# Altium schematic symbol library QuanRF_Library.SchLib: 62 symbols
Pins are listed as number, name and electrical type; pins without a type are passive.

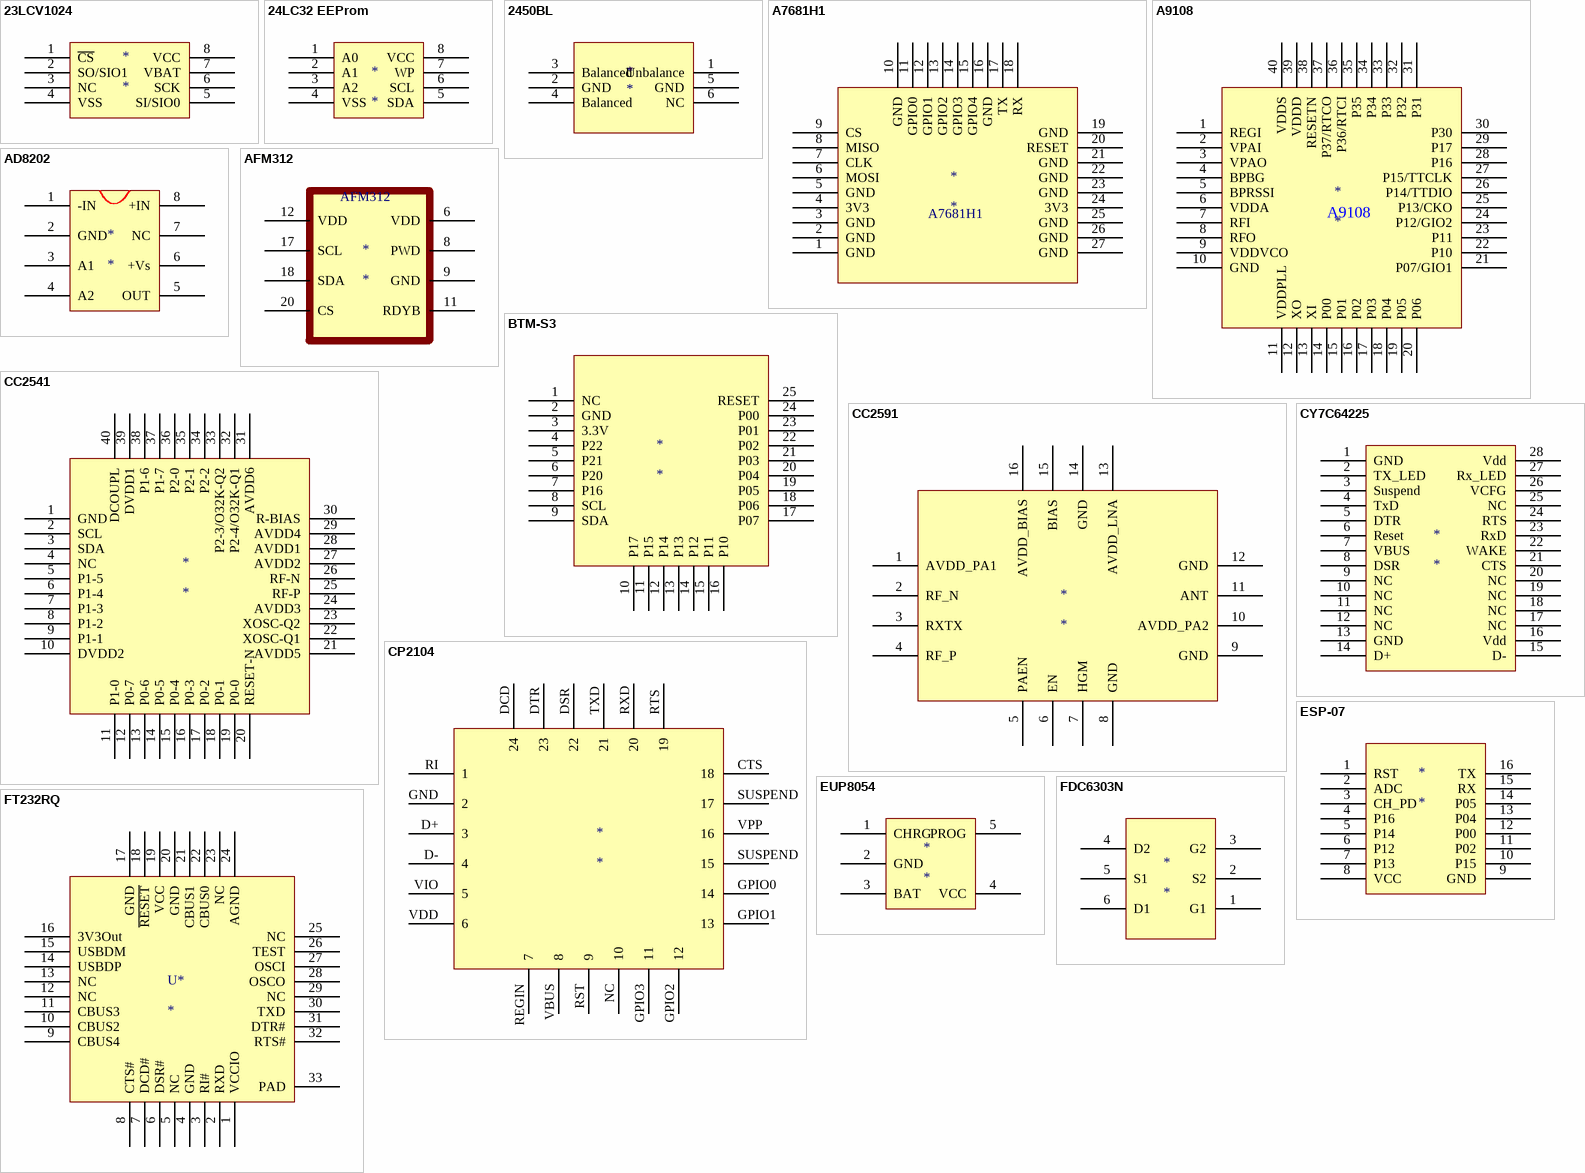
[diagram p0: symbols 23LCV1024 to FT232RQ]

## 23LCV1024
designator *
pins: 1 ~{CS}, 2 SO/SIO1, 3 NC, 4 VSS, 5 SI/SIO0, 6 SCK, 7 VBAT, 8 VCC

## 24LC32 EEProm
designator *
pins: 1 A0, 2 A1, 3 A2, 4 VSS, 5 SDA, 6 SCL, 7 WP, 8 VCC

## 2450BL
designator *
pins: 1 Unbalance, 2 GND, 3 Balanced, 4 Balanced, 5 GND, 6 NC

## A7681H1
designator *
pins: 1 GND, 2 GND, 3 GND, 4 3V3, 5 GND, 6 MOSI, 7 CLK, 8 MISO, 9 CS, 10 GND, 11 GPIO0, 12 GPIO1, 13 GPIO2, 14 GPIO3, 15 GPIO4, 16 GND, 17 TX, 18 RX, 19 GND, 20 RESET, 21 GND, 22 GND, 23 GND, 24 3V3, 25 GND, 26 GND, 27 GND

## A9108
designator *
pins: 1 REGI, 2 VPAI, 3 VPAO, 4 BPBG, 5 BPRSSI, 6 VDDA, 7 RFI, 8 RFO, 9 VDDVCO, 10 GND, 11 VDDPLL, 12 XO, 13 XI, 14 P00, 15 P01, 16 P02, 17 P03, 18 P04, 19 P05, 20 P06, 21 P07/GIO1, 22 P10, 23 P11, 24 P12/GIO2, 25 P13/CKO, 26 P14/TTDIO, 27 P15/TTCLK, 28 P16, 29 P17, 30 P30, 31 P31, 32 P32, 33 P33, 34 P34, 35 P35, 36 P36/RTCI, 37 P37/RTCO, 38 RESETN, 39 VDDD, 40 VDDS

## AD8202
designator *
pins: 1 -IN, 2 GND, 3 A1, 4 A2, 5 OUT, 6 +Vs, 7 NC, 8 +IN

## AFM312
designator *
pins: 6 VDD, 8 PWD, 9 GND, 11 RDYB, 12 VDD, 17 SCL, 18 SDA, 20 CS

## BTM-S3
designator *
pins: 1 NC, 2 GND, 3 3.3V, 4 P22, 5 P21, 6 P20, 7 P16, 8 SCL, 9 SDA, 10 P17, 11 P15, 12 P14, 13 P13, 14 P12, 15 P11, 16 P10, 17 P07, 18 P06, 19 P05, 20 P04, 21 P03, 22 P02, 23 P01, 24 P00, 25 RESET

## CC2541
designator *
footprint VQFN (Footprint not found)
pins: 1 GND, 2 SCL, 3 SDA, 4 NC, 5 P1-5, 6 P1-4, 7 P1-3, 8 P1-2, 9 P1-1, 10 DVDD2, 11 P1-0, 12 P0-7, 13 P0-6, 14 P0-5, 15 P0-4, 16 P0-3, 17 P0-2, 18 P0-1, 19 P0-0, 20 RESET-N, 21 AVDD5, 22 XOSC-Q1, 23 XOSC-Q2, 24 AVDD3, 25 RF-P, 26 RF-N, 27 AVDD2, 28 AVDD1, 29 AVDD4, 30 R-BIAS, 31 AVDD6, 32 P2-4/O32K-Q1, 33 P2-3/O32K-Q2, 34 P2-2, 35 P2-1, 36 P2-0, 37 P1-7, 38 P1-6, 39 DVDD1, 40 DCOUPL

## CC2591
designator *
pins: 1 AVDD_PA1, 2 RF_N, 3 RXTX, 4 RF_P, 5 PAEN, 6 EN, 7 HGM, 8 GND, 9 GND, 10 AVDD_PA2, 11 ANT, 12 GND, 13 AVDD_LNA, 14 GND, 15 BIAS, 16 AVDD_BIAS

## CP2104
designator *
pins: CTS 18, D+ 3, D- 4, DCD 24, DSR 22, DTR 23, GND 2, GPIO0 14, GPIO1 13, GPIO2 12, GPIO3 11, NC 10, REGIN 7, RI 1, RST 9, RTS 19, RXD 20, SUSPEND 15, SUSPEND 17, TXD 21, VBUS 8, VDD 6, VIO 5, VPP 16

## CY7C64225
designator *
pins: 1 GND, 2 TX_LED, 3 Suspend, 4 TxD, 5 DTR, 6 Reset, 7 VBUS, 8 DSR, 9 NC, 10 NC, 11 NC, 12 NC, 13 GND, 14 D+, 15 D-, 16 Vdd, 17 NC, 18 NC, 19 NC, 20 NC, 21 CTS, 22 WAKE, 23 RxD, 24 RTS, 25 NC, 26 VCFG, 27 Rx_LED, 28 Vdd

## ESP-07
designator *
pins: 1 RST, 2 ADC, 3 CH_PD, 4 P16, 5 P14, 6 P12, 7 P13, 8 VCC, 9 GND, 10 P15, 11 P02, 12 P00, 13 P04, 14 P05, 15 RX, 16 TX

## EUP8054
designator *
pins: 1 CHRG, 2 GND, 3 BAT, 4 VCC, 5 PROG

## FDC6303N
designator *
pins: 1 G1, 2 S2, 3 G2, 4 D2, 5 S1, 6 D1

## FT232RQ
designator U*
pins: 1 VCCIO, 2 RXD, 3 RI#, 4 GND, 5 NC, 6 DSR#, 7 DCD#, 8 CTS#, 9 CBUS4, 10 CBUS2, 11 CBUS3, 12 NC, 13 NC, 14 USBDP, 15 USBDM, 16 3V3Out, 17 GND, 18 ~{RESET}, 19 VCC, 20 GND, 21 CBUS1, 22 CBUS0, 23 NC, 24 AGND, 25 NC, 26 TEST, 27 OSCI, 28 OSCO, 29 NC, 30 TXD, 31 DTR#, 32 RTS#, 33 PAD

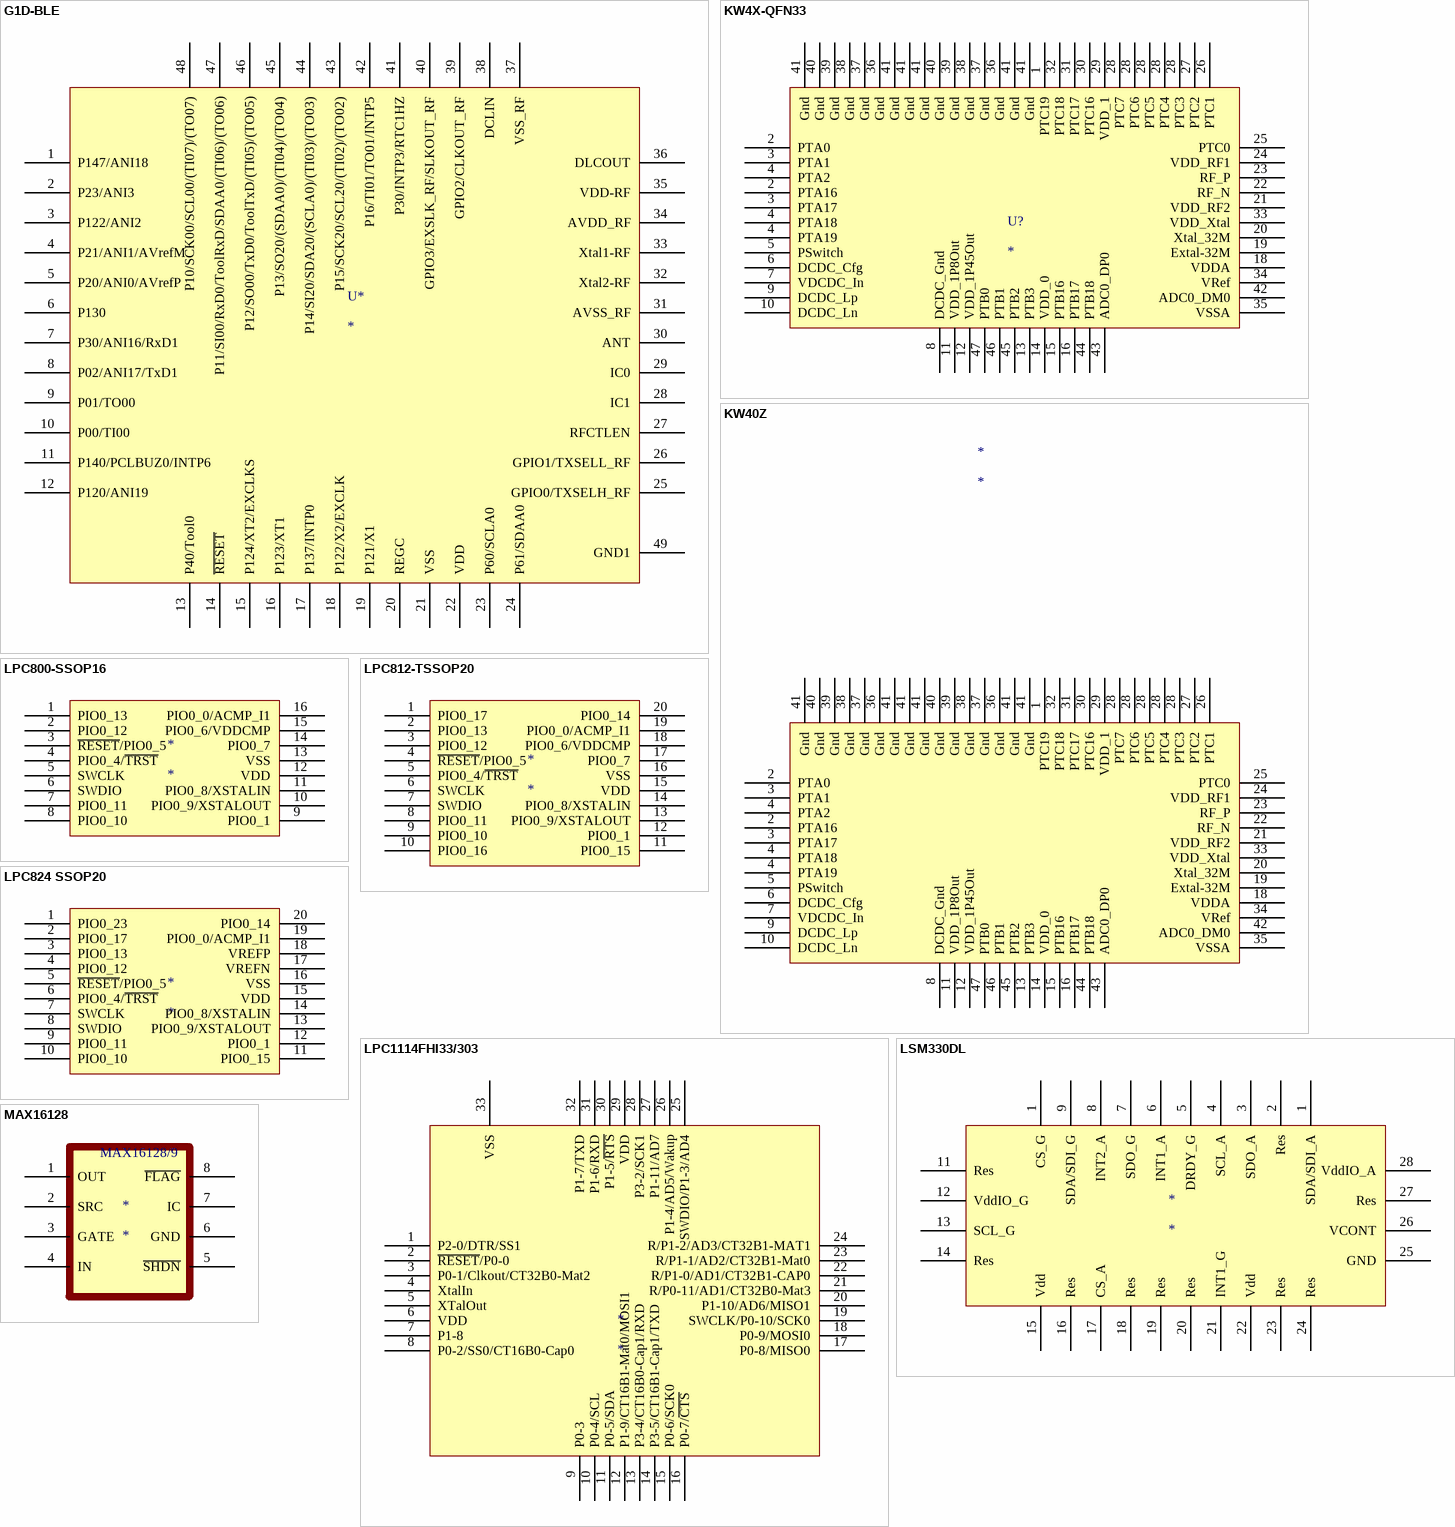
[diagram p1: symbols G1D-BLE to MAX16128]

## G1D-BLE
designator U*
pins: 1 P147/ANI18, 2 P23/ANI3, 3 P122/ANI2, 4 P21/ANI1/AVrefM, 5 P20/ANI0/AVrefP, 6 P130, 7 P30/ANI16/RxD1, 8 P02/ANI17/TxD1, 9 P01/TO00, 10 P00/TI00, 11 P140/PCLBUZ0/INTP6, 12 P120/ANI19, 13 P40/Tool0, 14 ~{RESET}, 15 P124/XT2/EXCLKS, 16 P123/XT1, 17 P137/INTP0, 18 P122/X2/EXCLK, 19 P121/X1, 20 REGC, 21 VSS, 22 VDD, 23 P60/SCLA0, 24 P61/SDAA0, 25 GPIO0/TXSELH_RF, 26 GPIO1/TXSELL_RF, 27 RFCTLEN, 28 IC1, 29 IC0, 30 ANT, 31 AVSS_RF, 32 Xtal2-RF, 33 Xtal1-RF, 34 AVDD_RF, 35 VDD-RF, 36 DLCOUT, 37 VSS_RF, 38 DCLIN, 39 GPIO2/CLKOUT_RF, 40 GPIO3/EXSLK_RF/SLKOUT_RF, 41 P30/INTP3/RTC1HZ, 42 P16/TI01/TO01/INTP5, 43 P15/SCK20/SCL20/(TI02)/(TO02), 44 P14/SI20/SDA20/(SCLA0)/(TI03)/(TO03), 45 P13/SO20/(SDAA0)/(TI04)/(TO04), 46 P12/SO00/TxD0/ToolTxD/(TI05)/(TO05), 47 P11/SI00/RxD0/ToolRxD/SDAA0/(TI06)/(TO06), 48 P10/SCK00/SCL00/(TI07)/(TO07), 49 GND1

## KW4X-QFN33
designator U?
pins: 1 PTC19, 2 PTA0, 2 PTA16, 3 PTA1, 3 PTA17, 4 PTA2, 4 PTA18, 4 PTA19, 5 PSwitch, 6 DCDC_Cfg, 7 VDCDC_In, 8 DCDC_Gnd (power), 9 DCDC_Lp, 10 DCDC_Ln, 11 VDD_1P8Out (power), 12 VDD_1P45Out (power), 13 PTB3, 14 VDD_0 (power), 15 PTB16, 16 PTB17, 18 VDDA (power), 19 Extal-32M, 20 Xtal_32M, 21 VDD_RF2, 22 RF_N, 23 RF_P, 24 VDD_RF1, 25 PTC0, 26 PTC1, 27 PTC2, 28 PTC3, 28 PTC7, 28 PTC6, 28 PTC5, 28 PTC4, 29 VDD_1, 30 PTC16, 31 PTC17, 32 PTC18, 33 VDD_Xtal (power), 34 VRef (power), 35 VSSA (power), 36 Gnd (power), 36 Gnd (power), 37 Gnd (power), 37 Gnd (power), 38 Gnd (power), 38 Gnd (power), 39 Gnd (power), 39 Gnd (power), 40 Gnd (power), 40 Gnd (power), 41 Gnd (power), 41 Gnd (power), 41 Gnd (power), 41 Gnd (power), 41 Gnd (power), 41 Gnd (power), 42 ADC0_DM0, 43 ADC0_DP0, 44 PTB18, 45 PTB2, 46 PTB1, 47 PTB0

## KW40Z
designator *
pins: 1 PTC19, 2 PTA0, 2 PTA16, 3 PTA1, 3 PTA17, 4 PTA2, 4 PTA18, 4 PTA19, 5 PSwitch, 6 DCDC_Cfg, 7 VDCDC_In, 8 DCDC_Gnd (power), 9 DCDC_Lp, 10 DCDC_Ln, 11 VDD_1P8Out (power), 12 VDD_1P45Out (power), 13 PTB3, 14 VDD_0 (power), 15 PTB16, 16 PTB17, 18 VDDA (power), 19 Extal-32M, 20 Xtal_32M, 21 VDD_RF2, 22 RF_N, 23 RF_P, 24 VDD_RF1, 25 PTC0, 26 PTC1, 27 PTC2, 28 PTC3, 28 PTC7, 28 PTC6, 28 PTC5, 28 PTC4, 29 VDD_1, 30 PTC16, 31 PTC17, 32 PTC18, 33 VDD_Xtal (power), 34 VRef (power), 35 VSSA (power), 36 Gnd (power), 36 Gnd (power), 37 Gnd (power), 37 Gnd (power), 38 Gnd (power), 38 Gnd (power), 39 Gnd (power), 39 Gnd (power), 40 Gnd (power), 40 Gnd (power), 41 Gnd (power), 41 Gnd (power), 41 Gnd (power), 41 Gnd (power), 41 Gnd (power), 41 Gnd (power), 42 ADC0_DM0, 43 ADC0_DP0, 44 PTB18, 45 PTB2, 46 PTB1, 47 PTB0

## LPC800-SSOP16
designator *
pins: 1 PIO0_13, 2 PIO0_12, 3 ~{RESET}/PIO0_5, 4 PIO0_4/~{TRST}, 5 SWCLK, 6 SWDIO, 7 PIO0_11, 8 PIO0_10, 9 PIO0_1, 10 PIO0_9/XSTALOUT, 11 PIO0_8/XSTALIN, 12 VDD, 13 VSS, 14 PIO0_7, 15 PIO0_6/VDDCMP, 16 PIO0_0/ACMP_I1

## LPC812-TSSOP20
designator *
pins: 1 PIO0_17, 2 PIO0_13, 3 PIO0_12, 4 ~{RESET}/PIO0_5, 5 PIO0_4/~{TRST}, 6 SWCLK, 7 SWDIO, 8 PIO0_11, 9 PIO0_10, 10 PIO0_16, 11 PIO0_15, 12 PIO0_1, 13 PIO0_9/XSTALOUT, 14 PIO0_8/XSTALIN, 15 VDD, 16 VSS, 17 PIO0_7, 18 PIO0_6/VDDCMP, 19 PIO0_0/ACMP_I1, 20 PIO0_14

## LPC824 SSOP20
designator *
pins: 1 PIO0_23, 2 PIO0_17, 3 PIO0_13, 4 PIO0_12, 5 ~{RESET}/PIO0_5, 6 PIO0_4/~{TRST}, 7 SWCLK, 8 SWDIO, 9 PIO0_11, 10 PIO0_10, 11 PIO0_15, 12 PIO0_1, 13 PIO0_9/XSTALOUT, 14 PIO0_8/XSTALIN, 15 VDD, 16 VSS, 17 VREFN, 18 VREFP, 19 PIO0_0/ACMP_I1, 20 PIO0_14

## LPC1114FHI33/303
designator *
pins: 1 P2-0/DTR/SS1, 2 ~{RESET}/P0-0, 3 P0-1/Clkout/CT32B0-Mat2, 4 XtalIn, 5 XTalOut, 6 VDD, 7 P1-8, 8 P0-2/SS0/CT16B0-Cap0, 9 P0-3, 10 P0-4/SCL, 11 P0-5/SDA, 12 P1-9/CT16B1-Mat0/MOSI1, 13 P3-4/CT16B0-Cap1/RXD, 14 P3-5/CT16B1-Cap1/TXD, 15 P0-6/SCK0, 16 P0-7/~{CTS}, 17 P0-8/MISO0, 18 P0-9/MOSI0, 19 SWCLK/P0-10/SCK0, 20 P1-10/AD6/MISO1, 21 R/P0-11/AD1/CT32B0-Mat3, 22 R/P1-0/AD1/CT32B1-CAP0, 23 R/P1-1/AD2/CT32B1-Mat0, 24 R/P1-2/AD3/CT32B1-MAT1, 25 SWDIO/P1-3/AD4, 26 P1-4/AD5/Wakup, 27 P1-11/AD7, 28 P3-2/SCK1, 29 VDD, 30 P1-5/~{RTS}, 31 P1-6/RXD, 32 P1-7/TXD, 33 VSS

## LSM330DL
designator *
pins: 1 SDA/SDI_A, 1 CS_G, 2 Res, 3 SDO_A, 4 SCL_A, 5 DRDY_G, 6 INT1_A, 7 SDO_G, 8 INT2_A, 9 SDA/SDI_G, 11 Res, 12 VddIO_G, 13 SCL_G, 14 Res, 15 Vdd, 16 Res, 17 CS_A, 18 Res, 19 Res, 20 Res, 21 INT1_G, 22 Vdd, 23 Res, 24 Res, 25 GND, 26 VCONT, 27 Res, 28 VddIO_A

## MAX16128
designator *
pins: 1 OUT, 2 SRC, 3 GATE, 4 IN, 5 ~{SHDN}, 6 GND, 7 IC, 8 ~{FLAG}
text: MAX16128/9

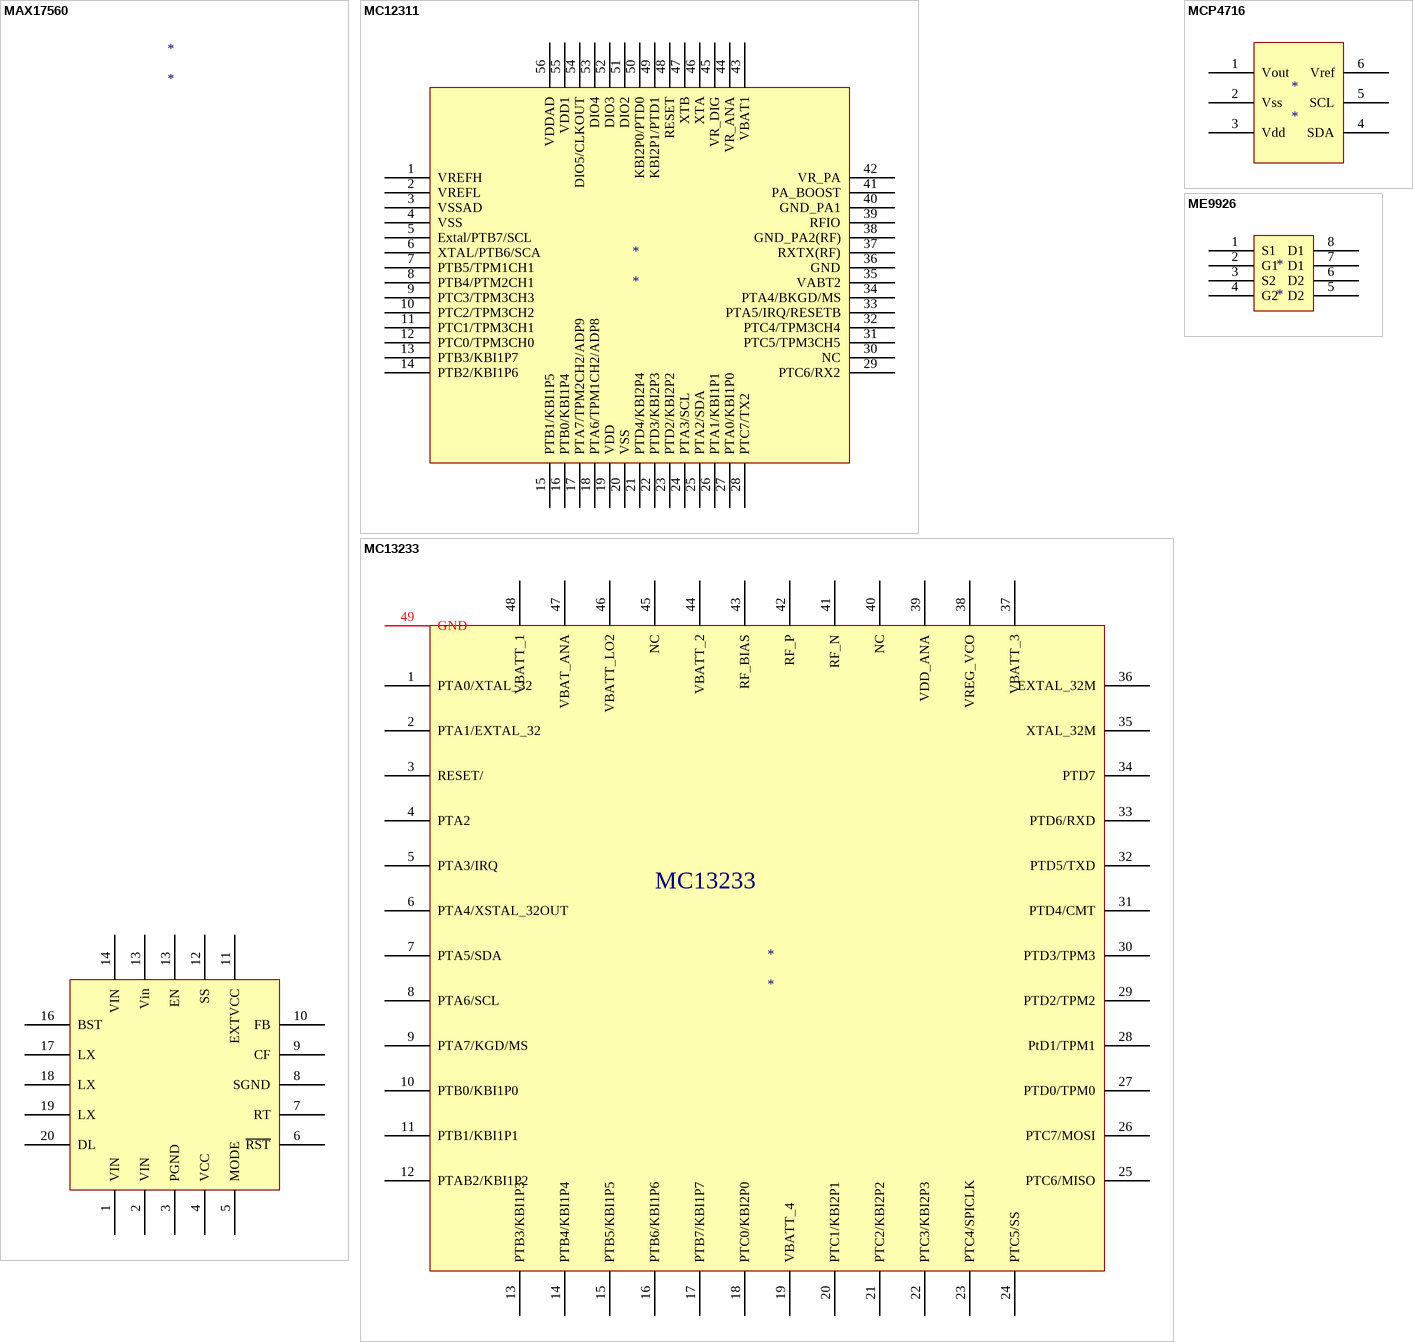
[diagram p2: symbols MAX17560 to ME9926]

## MAX17560
designator *
pins: 1 VIN, 2 VIN, 3 PGND, 4 VCC, 5 MODE, 6 ~{RST}, 7 RT, 8 SGND, 9 CF, 10 FB, 11 EXTVCC, 12 SS, 13 EN, 13 Vin, 14 VIN, 16 BST, 17 LX, 18 LX, 19 LX, 20 DL

## MC12311
designator *
pins: 1 VREFH, 2 VREFL, 3 VSSAD, 4 VSS, 5 Extal/PTB7/SCL, 6 XTAL/PTB6/SCA, 7 PTB5/TPM1CH1, 8 PTB4/PTM2CH1, 9 PTC3/TPM3CH3, 10 PTC2/TPM3CH2, 11 PTC1/TPM3CH1, 12 PTC0/TPM3CH0, 13 PTB3/KBI1P7, 14 PTB2/KBI1P6, 15 PTB1/KBI1P5, 16 PTB0/KBI1P4, 17 PTA7/TPM2CH2/ADP9, 18 PTA6/TPM1CH2/ADP8, 19 VDD, 20 VSS, 21 PTD4/KBI2P4, 22 PTD3/KBI2P3, 23 PTD2/KBI2P2, 24 PTA3/SCL, 25 PTA2/SDA, 26 PTA1/KBI1P1, 27 PTA0/KBI1P0, 28 PTC7/TX2, 29 PTC6/RX2, 30 NC, 31 PTC5/TPM3CH5, 32 PTC4/TPM3CH4, 33 PTA5/IRQ/RESETB, 34 PTA4/BKGD/MS, 35 VABT2 (power), 36 GND, 37 RXTX(RF), 38 GND_PA2(RF), 39 RFIO, 40 GND_PA1, 41 PA_BOOST, 42 VR_PA, 43 VBAT1, 44 VR_ANA, 45 VR_DIG, 46 XTA, 47 XTB, 48 RESET, 49 KBI2P1/PTD1, 50 KBI2P0/PTD0, 51 DIO2, 52 DIO3, 53 DIO4, 54 DIO5/CLKOUT, 55 VDD1, 56 VDDAD

## MC13233
designator *
pins: 1 PTA0/XTAL_32, 2 PTA1/EXTAL_32, 3 RESET/, 4 PTA2, 5 PTA3/IRQ, 6 PTA4/XSTAL_32OUT, 7 PTA5/SDA, 8 PTA6/SCL, 9 PTA7/KGD/MS, 10 PTB0/KBI1P0, 11 PTB1/KBI1P1, 12 PTAB2/KBI1P2, 13 PTB3/KBI1P3, 14 PTB4/KBI1P4, 15 PTB5/KBI1P5, 16 PTB6/KBI1P6, 17 PTB7/KBI1P7, 18 PTC0/KBI2P0, 19 VBATT_4, 20 PTC1/KBI2P1, 21 PTC2/KBI2P2, 22 PTC3/KBI2P3, 23 PTC4/SPICLK, 24 PTC5/SS, 25 PTC6/MISO, 26 PTC7/MOSI, 27 PTD0/TPM0, 28 PtD1/TPM1, 29 PTD2/TPM2, 30 PTD3/TPM3, 31 PTD4/CMT, 32 PTD5/TXD, 33 PTD6/RXD, 34 PTD7, 35 XTAL_32M, 36 EXTAL_32M, 37 VBATT_3, 38 VREG_VCO, 39 VDD_ANA, 40 NC, 41 RF_N, 42 RF_P, 43 RF_BIAS, 44 VBATT_2, 45 NC, 46 VBATT_LO2, 47 VBAT_ANA, 48 VBATT_1, 49 GND

## MCP4716
designator *
pins: 1 Vout, 2 Vss, 3 Vdd, 4 SDA, 5 SCL, 6 Vref

## ME9926
designator *
pins: 1 S1, 2 G1, 3 S2, 4 G2, 5 D2, 6 D2, 7 D1, 8 D1

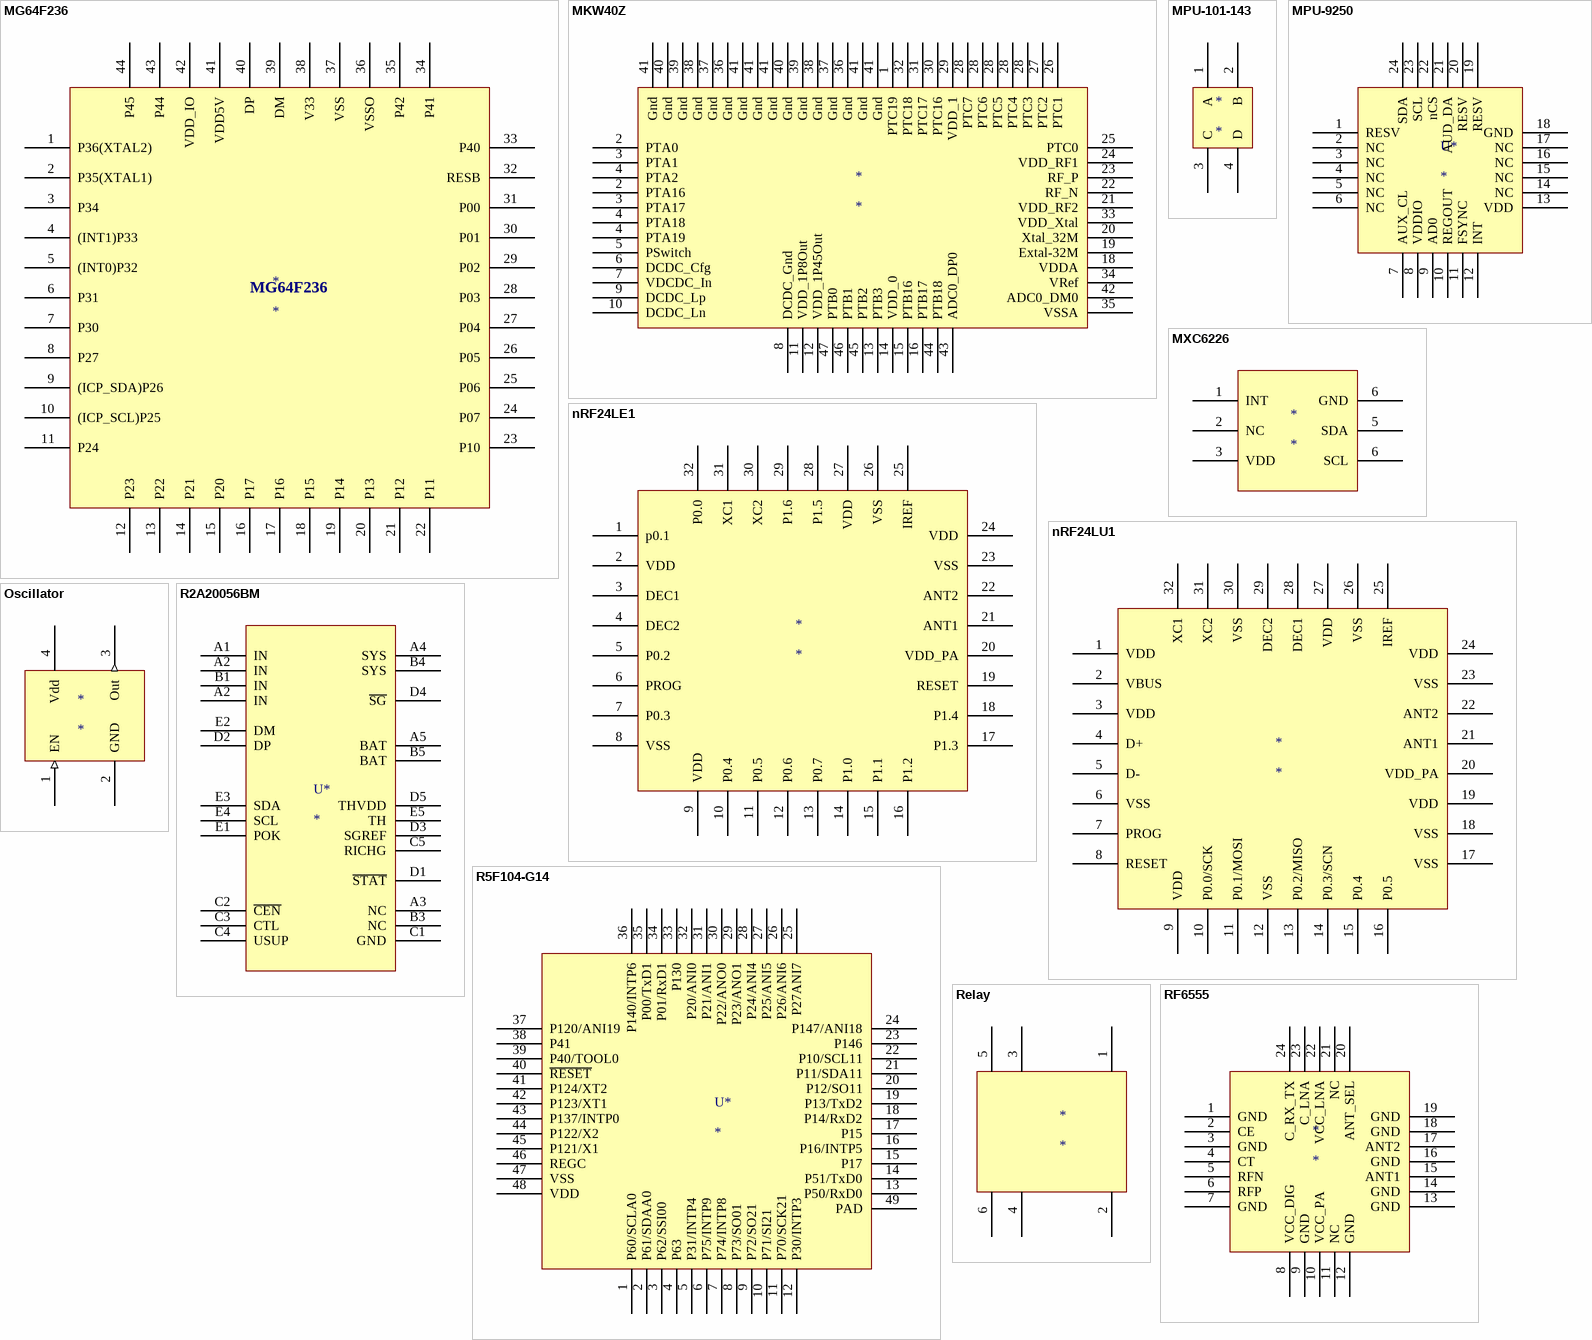
[diagram p3: symbols MG64F236 to RF6555]

## MG64F236
designator *
footprint FR-QFP5X7-G44/N (QFP; 44 Leads; Body 5 x 7 mm; Pitch 0.4 mm)
footprint QFP10x10-G44/G10N (44-Pin Plastic Quad Flat Pack (PFQP))
footprint PQFP44 (Footprint not found)
pins: 1 P36(XTAL2), 2 P35(XTAL1), 3 P34, 4 (INT1)P33, 5 (INT0)P32, 6 P31, 7 P30, 8 P27, 9 (ICP_SDA)P26, 10 (ICP_SCL)P25, 11 P24, 12 P23, 13 P22, 14 P21, 15 P20, 16 P17, 17 P16, 18 P15, 19 P14, 20 P13, 21 P12, 22 P11, 23 P10, 24 P07, 25 P06, 26 P05, 27 P04, 28 P03, 29 P02, 30 P01, 31 P00, 32 RESB, 33 P40, 34 P41, 35 P42, 36 VSSO, 37 VSS, 38 V33, 39 DM, 40 DP, 41 VDD5V, 42 VDD_IO, 43 P44, 44 P45

## MKW40Z
designator *
pins: 1 PTC19, 2 PTA0, 2 PTA16, 3 PTA1, 3 PTA17, 4 PTA2, 4 PTA18, 4 PTA19, 5 PSwitch, 6 DCDC_Cfg, 7 VDCDC_In, 8 DCDC_Gnd (power), 9 DCDC_Lp, 10 DCDC_Ln, 11 VDD_1P8Out (power), 12 VDD_1P45Out (power), 13 PTB3, 14 VDD_0 (power), 15 PTB16, 16 PTB17, 18 VDDA (power), 19 Extal-32M, 20 Xtal_32M, 21 VDD_RF2, 22 RF_N, 23 RF_P, 24 VDD_RF1, 25 PTC0, 26 PTC1, 27 PTC2, 28 PTC3, 28 PTC7, 28 PTC6, 28 PTC5, 28 PTC4, 29 VDD_1, 30 PTC16, 31 PTC17, 32 PTC18, 33 VDD_Xtal (power), 34 VRef (power), 35 VSSA (power), 36 Gnd (power), 36 Gnd (power), 37 Gnd (power), 37 Gnd (power), 38 Gnd (power), 38 Gnd (power), 39 Gnd (power), 39 Gnd (power), 40 Gnd (power), 40 Gnd (power), 41 Gnd (power), 41 Gnd (power), 41 Gnd (power), 41 Gnd (power), 41 Gnd (power), 41 Gnd (power), 42 ADC0_DM0, 43 ADC0_DP0, 44 PTB18, 45 PTB2, 46 PTB1, 47 PTB0

## MPU-101-143
designator *
pins: 1 A, 2 B, 3 C, 4 D

## MPU-9250
designator U*
pins: 1 RESV, 2 NC, 3 NC, 4 NC, 5 NC, 6 NC, 7 AUX_CL, 8 VDDIO, 9 AD0, 10 REGOUT, 11 FSYNC, 12 INT, 13 VDD, 14 NC, 15 NC, 16 NC, 17 NC, 18 GND, 19 RESV, 20 RESV, 21 AUD_DA, 22 nCS, 23 SCL, 24 SDA

## MXC6226
designator *
pins: 1 INT, 2 NC, 3 VDD, 5 SDA, 6 GND, 6 SCL

## nRF24LE1
designator *
pins: 1 p0.1, 2 VDD, 3 DEC1, 4 DEC2, 5 P0.2, 6 PROG, 7 P0.3, 8 VSS, 9 VDD, 10 P0.4, 11 P0.5, 12 P0.6, 13 P0.7, 14 P1.0, 15 P1.1, 16 P1.2, 17 P1.3, 18 P1.4, 19 RESET, 20 VDD_PA, 21 ANT1, 22 ANT2, 23 VSS, 24 VDD, 25 IREF, 26 VSS, 27 VDD, 28 P1.5, 29 P1.6, 30 XC2, 31 XC1, 32 P0.0

## nRF24LU1
designator *
pins: 1 VDD, 2 VBUS, 3 VDD, 4 D+, 5 D-, 6 VSS, 7 PROG, 8 RESET, 9 VDD, 10 P0.0/SCK, 11 P0.1/MOSI, 12 VSS, 13 P0.2/MISO, 14 P0.3/SCN, 15 P0.4, 16 P0.5, 17 VSS, 18 VSS, 19 VDD, 20 VDD_PA, 21 ANT1, 22 ANT2, 23 VSS, 24 VDD, 25 IREF, 26 VSS, 27 VDD, 28 DEC1, 29 DEC2, 30 VSS, 31 XC2, 32 XC1

## Oscillator
designator *
pins: 1 EN (in), 2 GND (power), 3 Out (out), 4 Vdd (power)

## R2A20056BM
designator U*
pins: A1 IN, A2 IN, A2 IN, A3 NC, A4 SYS, A5 BAT, B1 IN, B3 NC, B4 SYS, B5 BAT, C1 GND, C2 ~{CEN}, C3 CTL, C4 USUP, C5 RICHG, D1 ~{STAT}, D2 DP, D3 SGREF, D4 ~{SG}, D5 THVDD, E1 POK, E2 DM, E3 SDA, E4 SCL, E5 TH

## R5F104-G14
designator U*
pins: 1 P60/SCLA0, 2 P61/SDAA0, 3 P62/SSI00, 4 P63, 5 P31/INTP4, 6 P75/INTP9, 7 P74/INTP8, 8 P73/SO01, 9 P72/SO21, 10 P71/SI21, 11 P70/SCK21, 12 P30/INTP3, 13 P50/RxD0, 14 P51/TxD0, 15 P17, 16 P16/INTP5, 17 P15, 18 P14/RxD2, 19 P13/TxD2, 20 P12/SO11, 21 P11/SDA11, 22 P10/SCL11, 23 P146, 24 P147/ANI18, 25 P27ANI7, 26 P26/ANI6, 27 P25/ANI5, 28 P24/ANI4, 29 P23/ANO1, 30 P22/ANO0, 31 P21/ANI1, 32 P20/ANI0, 33 P130, 34 P01/RxD1, 35 P00/TxD1, 36 P140/INTP6, 37 P120/ANI19, 38 P41, 39 P40/TOOL0, 40 ~{RESET}, 41 P124/XT2, 42 P123/XT1, 43 P137/INTP0, 44 P122/X2, 45 P121/X1, 46 REGC, 47 VSS (power), 48 VDD (power), 49 PAD (power)

## Relay
designator *
pins: 1, 2, 3, 4, 5, 6

## RF6555
designator *
pins: 1 GND, 2 CE, 3 GND, 4 CT, 5 RFN, 6 RFP, 7 GND, 8 VCC_DIG, 9 GND, 10 VCC_PA, 11 NC, 12 GND, 13 GND, 14 GND, 15 ANT1, 16 GND, 17 ANT2, 18 GND, 19 GND, 20 ANT_SEL, 21 NC, 22 VCC_LNA, 23 C_LNA, 24 C_RX_TX

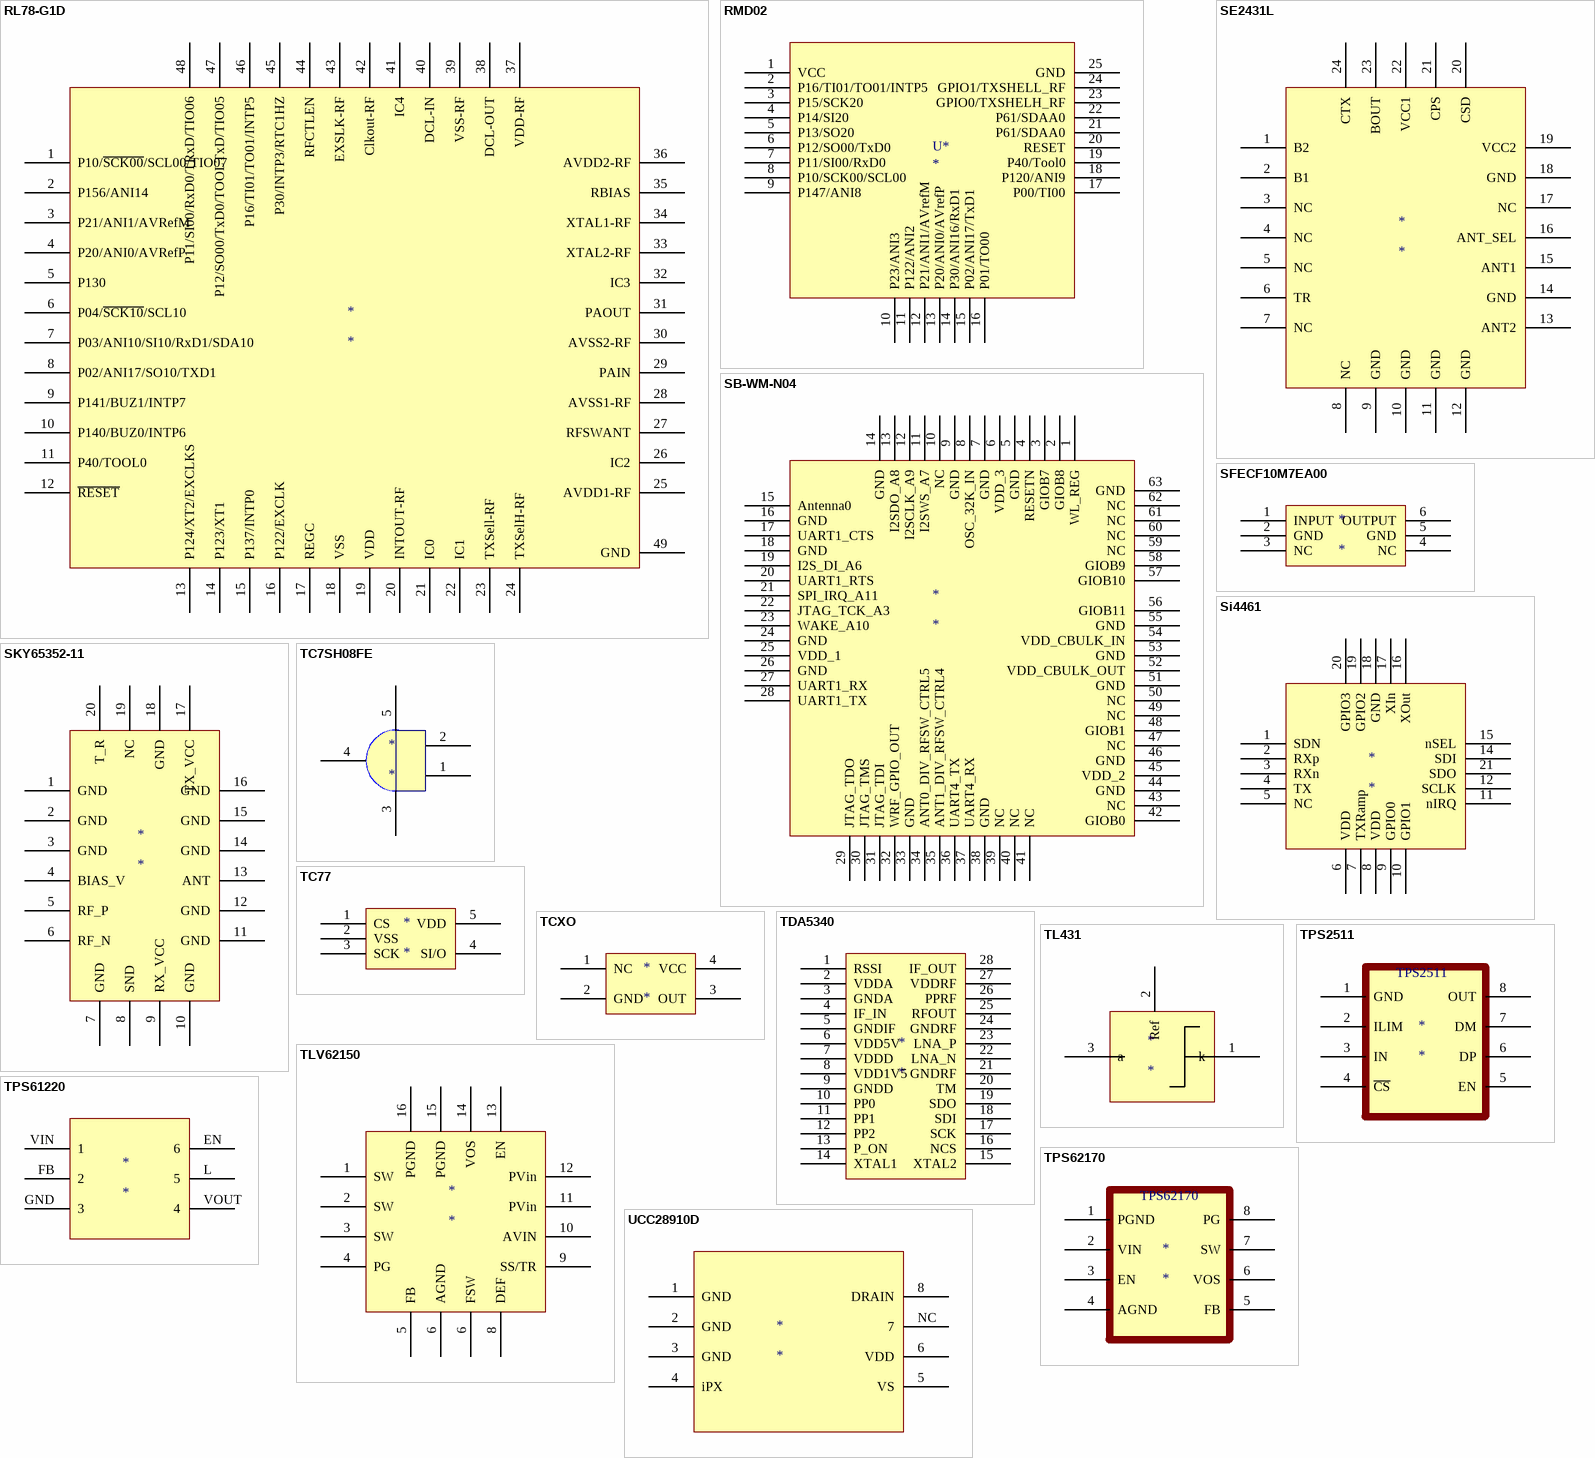
[diagram p4: symbols RL78-G1D to UCC28910D]

## RL78-G1D
designator *
pins: 1 P10/~{SCK00}/SCL00/TIO07, 2 P156/ANI14, 3 P21/ANI1/AVRefM, 4 P20/ANI0/AVRefP, 5 P130, 6 P04/~{SCK10}/SCL10, 7 P03/ANI10/SI10/RxD1/SDA10, 8 P02/ANI17/SO10/TXD1, 9 P141/BUZ1/INTP7, 10 P140/BUZ0/INTP6, 11 P40/TOOL0, 12 ~{RESET}, 13 P124/XT2/EXCLKS, 14 P123/XT1, 15 P137/INTP0, 16 P122/EXCLK, 17 REGC, 18 VSS, 19 VDD, 20 INTOUT-RF, 21 IC0, 22 IC1, 23 TXSell-RF, 24 TXSelH-RF, 25 AVDD1-RF, 26 IC2, 27 RFSWANT, 28 AVSS1-RF, 29 PAIN, 30 AVSS2-RF, 31 PAOUT, 32 IC3, 33 XTAL2-RF, 34 XTAL1-RF, 35 RBIAS, 36 AVDD2-RF, 37 VDD-RF, 38 DCL-OUT, 39 VSS-RF, 40 DCL-IN, 41 IC4, 42 Clkout-RF, 43 EXSLK-RF, 44 RFCTLEN, 45 P30/INTP3/RTC1HZ, 46 P16/TI01/TO01/INTP5, 47 P12/SO00/TxD0/TOOLTxD/TIO05, 48 P11/SI00/RxD0/TRxD/TIO06, 49 GND

## RMD02
designator U*
pins: 1 VCC, 2 P16/TI01/TO01/INTP5, 3 P15/SCK20, 4 P14/SI20, 5 P13/SO20, 6 P12/SO00/TxD0, 7 P11/SI00/RxD0, 8 P10/SCK00/SCL00, 9 P147/ANI8, 10 P23/ANI3, 11 P122/ANI2, 12 P21/ANI1/AVrefM, 13 P20/ANI0/AVrefP, 14 P30/ANI16/RxD1, 15 P02/ANI17/TxD1, 16 P01/TO00, 17 P00/TI00, 18 P120/ANI9, 19 P40/Tool0, 20 RESET, 21 P61/SDAA0, 22 P61/SDAA0, 23 GPIO0/TXSHELH_RF, 24 GPIO1/TXSHELL_RF, 25 GND

## SB-WM-N04
designator *
pins: 1 WL_REG, 2 GIOB8, 3 GIOB7, 4 RESETN, 5 GND, 6 VDD_3, 7 GND, 8 OSC_32K_IN, 9 GND, 10 NC, 11 I2SWS_A7, 12 I2SCLK_A9, 13 I2SDO_A8, 14 GND, 15 Antenna0, 16 GND, 17 UART1_CTS, 18 GND, 19 I2S_DI_A6, 20 UART1_RTS, 21 SPI_IRQ_A11, 22 JTAG_TCK_A3, 23 WAKE_A10, 24 GND, 25 VDD_1, 26 GND, 27 UART1_RX, 28 UART1_TX, 29 JTAG_TDO, 30 JTAG_TMS, 31 JTAG_TDI, 32 WRF_GPIO_OUT, 33 GND, 34 ANT0_DIV_RFSW_CTRL5, 35 ANT1_DIV_RFSW_CTRL4, 36 UART4_TX, 37 UART4_RX, 38 GND, 39 NC, 40 NC, 41 NC, 42 GIOB0, 43 NC, 44 GND, 45 VDD_2, 46 GND, 47 NC, 48 GIOB1, 49 NC, 50 NC, 51 GND, 52 VDD_CBULK_OUT, 53 GND, 54 VDD_CBULK_IN, 55 GND, 56 GIOB11, 57 GIOB10, 58 GIOB9, 59 NC, 60 NC, 61 NC, 62 NC, 63 GND

## SE2431L
designator *
pins: 1 B2, 2 B1, 3 NC, 4 NC, 5 NC, 6 TR, 7 NC, 8 NC, 9 GND, 10 GND, 11 GND, 12 GND, 13 ANT2, 14 GND, 15 ANT1, 16 ANT_SEL, 17 NC, 18 GND, 19 VCC2, 20 CSD, 21 CPS, 22 VCC1, 23 BOUT, 24 CTX

## SFECF10M7EA00
designator *
pins: 1 INPUT, 2 GND, 3 NC, 4 NC, 5 GND, 6 OUTPUT

## Si4461
designator *
pins: 1 SDN, 2 RXp, 3 RXn, 4 TX, 5 NC, 6 VDD, 7 TXRamp, 8 VDD, 9 GPIO0, 10 GPIO1, 11 nIRQ, 12 SCLK, 14 SDI, 15 nSEL, 16 XOut, 17 XIn, 18 GND, 19 GPIO2, 20 GPIO3, 21 SDO

## SKY65352-11
designator *
pins: 1 GND, 2 GND, 3 GND, 4 BIAS_V, 5 RF_P, 6 RF_N, 7 GND, 8 SND, 9 RX_VCC, 10 GND, 11 GND, 12 GND, 13 ANT, 14 GND, 15 GND, 16 GND, 17 TX_VCC, 18 GND, 19 NC, 20 T_R

## TC7SH08FE
designator *
pins: 1  , 2  , 3  , 4, 5

## TC77
designator *
footprint SOT-23-5 (Footprint not found)
pins: 1 CS, 2 VSS, 3 SCK, 4 SI/O, 5 VDD

## TCXO
designator *
pins: 1 NC, 2 GND, 3 OUT, 4 VCC

## TDA5340
designator *
footprint TSSOP (Footprint not found)
pins: 1 RSSI, 2 VDDA, 3 GNDA, 4 IF_IN, 5 GNDIF, 6 VDD5V, 7 VDDD, 8 VDD1V5, 9 GNDD, 10 PP0, 11 PP1, 12 PP2, 13 P_ON, 14 XTAL1, 15 XTAL2, 16 NCS, 17 SCK, 18 SDI, 19 SDO, 20 TM, 21 GNDRF, 22 LNA_N, 23 LNA_P, 24 GNDRF, 25 RFOUT, 26 PPRF, 27 VDDRF, 28 IF_OUT

## TL431
designator *
pins: 1 k, 2 Ref, 3 a

## TLV62150
designator *
pins: 1 SW, 2 SW, 3 SW, 4 PG, 5 FB, 6 AGND, 6 FSW, 8 DEF, 9 SS/TR, 10 AVIN, 11 PVin, 12 PVin, 13 EN, 14 VOS, 15 PGND, 16 PGND

## TPS2511
designator *
pins: 1 GND, 2 ILIM, 3 IN, 4 ~{CS}, 5 EN, 6 DP, 7 DM, 8 OUT

## TPS61220
designator *
footprint SC-70 (Footprint not found)
pins: EN 6, FB 2, GND 3, L 5, VIN 1, VOUT 4

## TPS62170
designator *
pins: 1 PGND, 2 VIN, 3 EN, 4 AGND, 5 FB, 6 VOS, 7 SW, 8 PG

## UCC28910D
designator *
pins: 1 GND, 2 GND, 3 GND, 4 iPX, 5 VS, 6 VDD, 8 DRAIN, NC 7

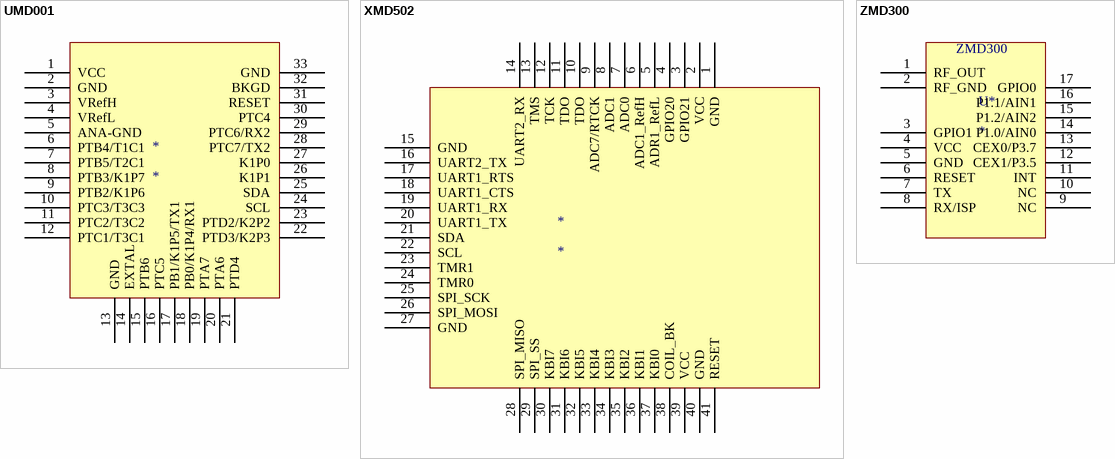
[diagram p5: symbols UMD001 to ZMD300]

## UMD001
designator *
pins: 1 VCC, 2 GND, 3 VRefH, 4 VRefL, 5 ANA-GND, 6 PTB4/T1C1, 7 PTB5/T2C1, 8 PTB3/K1P7, 9 PTB2/K1P6, 10 PTC3/T3C3, 11 PTC2/T3C2, 12 PTC1/T3C1, 13 GND, 14 EXTAL, 15 PTB6, 16 PTC5, 17 PB1/K1P5/TX1, 18 PB0/K1P4/RX1, 19 PTA7, 20 PTA6, 21 PTD4, 22 PTD3/K2P3, 23 PTD2/K2P2, 24 SCL, 25 SDA, 26 K1P1, 27 K1P0, 28 PTC7/TX2, 29 PTC6/RX2, 30 PTC4, 31 RESET, 32 BKGD, 33 GND

## XMD502
designator *
pins: 1 GND, 2 VCC, 3 GPIO21, 4 GPIO20, 5 ADR1_RefL, 6 ADC1_RefH, 7 ADC0, 8 ADC1, 9 ADC7/RTCK, 10 TDO, 11 TDO, 12 TCK, 13 TMS, 14 UART2_RX, 15 GND, 16 UART2_TX, 17 UART1_RTS, 18 UART1_CTS, 19 UART1_RX, 20 UART1_TX, 21 SDA, 22 SCL, 23 TMR1, 24 TMR0, 25 SPI_SCK, 26 SPI_MOSI, 27 GND, 28 SPI_MISO, 29 SPI_SS, 30 KBI7, 31 KBI6, 32 KBI5, 33 KBI4, 34 KBI3, 35 KBI2, 36 KBI1, 37 KBI0, 38 COIL_BK, 39 VCC, 40 GND, 41 RESET

## ZMD300
designator U*
pins: 1 RF_OUT, 2 RF_GND, 3 GPIO1, 4 VCC (power), 5 GND, 6 RESET, 7 TX, 8 RX/ISP, 9 NC, 10 NC, 11 INT, 12 CEX1/P3.5, 13 CEX0/P3.7, 14 P1.0/AIN0, 15 P1.2/AIN2, 16 P1.1/AIN1, 17 GPIO0